# EAGLE library part 10PIN (library my_connector)
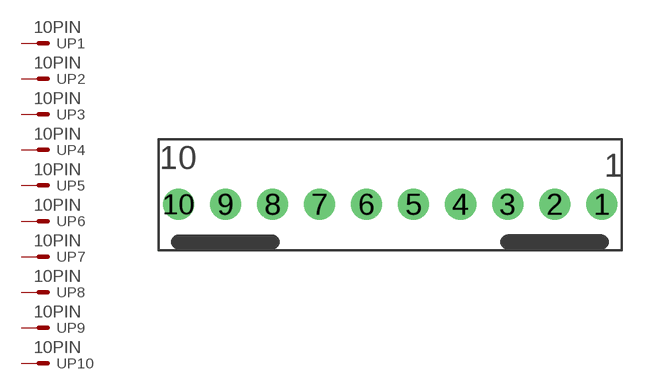
[diagram p4: symbol with the pads of 10PIN; footprint 10PIN]

Designator prefix -; gates P5=MV P6=MV P4=MV P7=MV P3=MV P8=MV P2=MV P9=MV P1=MV P10=MV

## 10PIN  [10PIN]
1  P1:S  pas
2  P2:S  pas
3  P3:S  pas
4  P4:S  pas
5  P5:S  pas
6  P6:S  pas
7  P7:S  pas
8  P8:S  pas
9  P9:S  pas
10  P10:S  pas

## Footprint 10PIN (pad centres in mm)
drill 1 pad 1.676: 1 11.43,-0.5; 2 8.89,-0.5; 3 6.35,-0.5; 4 3.81,-0.5; 5 1.27,-0.5; 6 -1.27,-0.5; 7 -3.81,-0.5; 8 -6.35,-0.5; 9 -8.89,-0.5; 10 -11.43,-0.5